# EAGLE library part X03X2 (library connectors)
Connector 2x3 pins
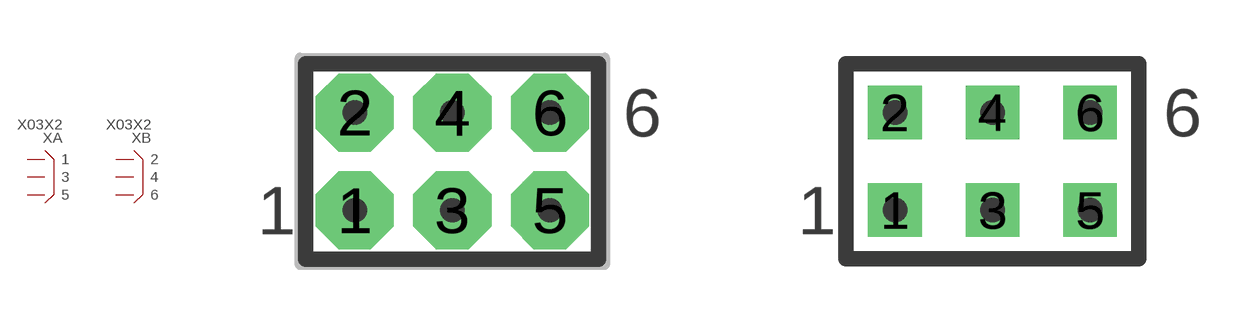
[diagram p54: symbol with the pads of X06N-DIL; footprints X06N-DIL, X06R-DIL]

Designator prefix X; gates A=X06A B=X06B

## X03X2D  [X06N-DIL]
1  A:1
2  B:2
3  A:3
4  B:4
5  A:5
6  B:6

## X03X2DR  [X06R-DIL]
Pads as for X06N-DIL

## X03X2I  [X06N-IDC]
Pads as for X06N-DIL

## X03X2  [X06N-IDC]
Pads as for X06N-DIL

## X03X2IR  [X06R-IDC]
Pads as for X06N-DIL

## X03X2IC  [X06N-RIBBON1]
Pads as for X06N-DIL

## X03X2ICR  [X06R-RIBBON1]
Pads as for X06N-DIL

## Footprint X06N-DIL (pad centres in mm)
Connector 6 pins, DIL
drill 0.889 pad 2.032 octagon: 1 -2.54,-1.27; 2 -2.54,1.27; 3 0,-1.27; 4 0,1.27; 5 2.54,-1.27; 6 2.54,1.27

## Footprint X06R-DIL (pad centres in mm)
Connector 6 pins, DIL, reduced pads
drill 0.889 pad 1.397 square: 1 -2.54,-1.27; 2 -2.54,1.27; 3 0,-1.27; 4 0,1.27; 5 2.54,-1.27; 6 2.54,1.27

## Footprint X06N-IDC (pad centres in mm)
Connector 6 pins, IDC
drill 0.889 pad 2.032 octagon: 1 -2.54,-1.27; 2 -2.54,1.27; 3 0,-1.27; 4 0,1.27; 5 2.54,-1.27; 6 2.54,1.27

## Footprint X06R-IDC (pad centres in mm)
Connector 6 pins, IDC, reduced pads
drill 0.889 pad 1.397 square: 1 -2.54,-1.27; 2 -2.54,1.27; 3 0,-1.27; 4 0,1.27; 5 2.54,-1.27; 6 2.54,1.27

## Footprint X06N-RIBBON1 (pad centres in mm)
Connector 6 pins, IDC for ribbon cables
drill 0.889 pad 2.032 octagon: 1 -2.54,-1.27; 2 -2.54,1.27; 3 0,-1.27; 4 0,1.27; 5 2.54,-1.27; 6 2.54,1.27

## Footprint X06R-RIBBON1 (pad centres in mm)
Connector 6 pins, IDC for ribbon cables, reduced pads
drill 0.889 pad 1.397 square: 1 -2.54,-1.27; 2 -2.54,1.27; 3 0,-1.27; 4 0,1.27; 5 2.54,-1.27; 6 2.54,1.27